# EAGLE library part ADG739 (library growbot)
+3 V/+5 V/�5 V CMOS 4-Channel Analog Multiplexers Source: ADG658_659.pdf
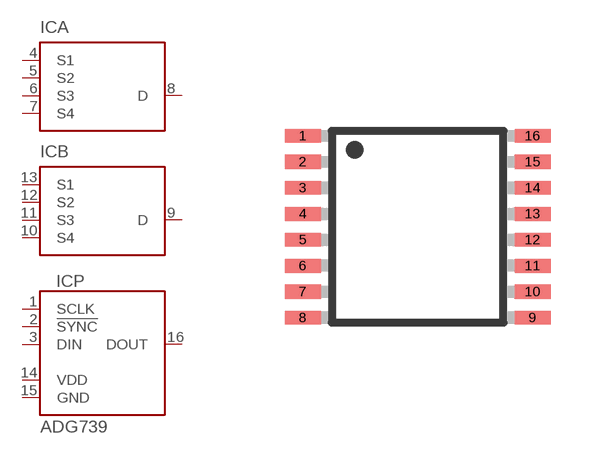
[diagram p2: symbol with the pads of TSSOP16; footprint TSSOP16]

Designator prefix IC; gates A=ADG739_1 B=ADG739_1 P=ADG739_2

## ADG739BRUZ (MF: ALTERA CORPORATION; MPN: ADG659YRU-REEL7; OC_FARNELL: 1438948; OC_NEWARK: 50H3058)  [TSSOP16]
1  P:SCLK  in
2  P:!SYNC  in
3  P:DIN  in
4  A:S1
5  A:S2
6  A:S3
7  A:S4
8  A:D
9  B:D
10  B:S4
11  B:S3
12  B:S2
13  B:S1
14  P:VDD  pwr
15  P:GND  pwr
16  P:DOUT  in

## Footprint TSSOP16 (pad centres in mm)
16-Lead Thin Shrink Small Outline Package [TSSOP] (RU-16) Source: 8x ADG1408_1409.pdf
smd 0.9 x 0.35: 1 -2.875,2.275; 2 -2.875,1.625; 3 -2.875,0.975; 4 -2.875,0.325; 5 -2.875,-0.325; 6 -2.875,-0.975; 7 -2.875,-1.625; 8 -2.875,-2.275; 9 2.875,-2.275; 10 2.875,-1.625; 11 2.875,-0.975; 12 2.875,-0.325; 13 2.875,0.325; 14 2.875,0.975; 15 2.875,1.625; 16 2.875,2.275